# EAGLE library part STM8S103EBAY (library stm8s103EbayBoard)
Ebay Module with STM8S103. Specs Both 5V and 3.3V pins has onboard led on Pin 5, Port B author: Vincent Gijsen
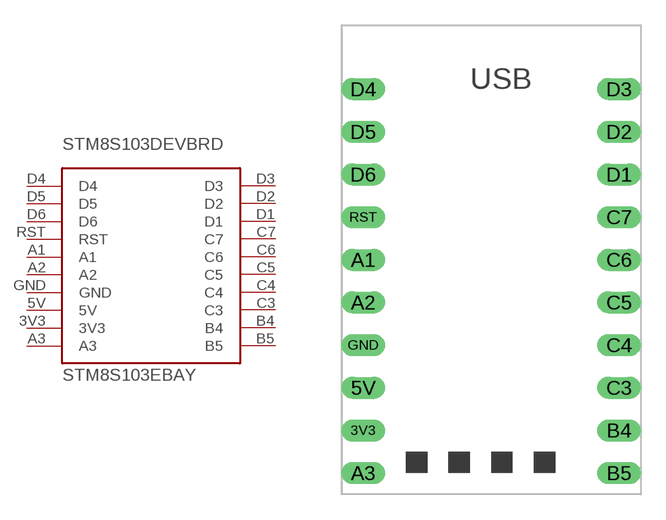
[diagram p0: symbol with the pads of DEFAULTPKG; footprint DEFAULTPKG]

Designator prefix STM8S103DEVBRD

## STM8S103EBAY  [DEFAULTPKG]
3V3  3V3  pwr
5V  5V  pwr
A1  A1
A2  A2
A3  A3
B4  B4
B5  B5
C3  C3
C4  C4
C5  C5
C6  C6
C7  C7
D1  D1
D2  D2
D3  D3
D4  D4
D5  D5
D6  D6
GND  GND  pwr
RST  RST

## Footprint DEFAULTPKG (pad centres in mm)
drill 0.8 long: 3V3 -7.62,-10.16; 5V -7.62,-7.62; A1 -7.62,0; A2 -7.62,-2.54; A3 -7.62,-12.7; B4 7.62,-10.16; B5 7.62,-12.7; C3 7.62,-7.62; C4 7.62,-5.08; C5 7.62,-2.54; C6 7.62,0; C7 7.62,2.54; D1 7.62,5.08; D2 7.62,7.62; D3 7.62,10.16; D4 -7.62,10.16; D5 -7.62,7.62; D6 -7.62,5.08; GND -7.62,-5.08; RST -7.62,2.54